# EAGLE library part PICSTICK (library pinconn)
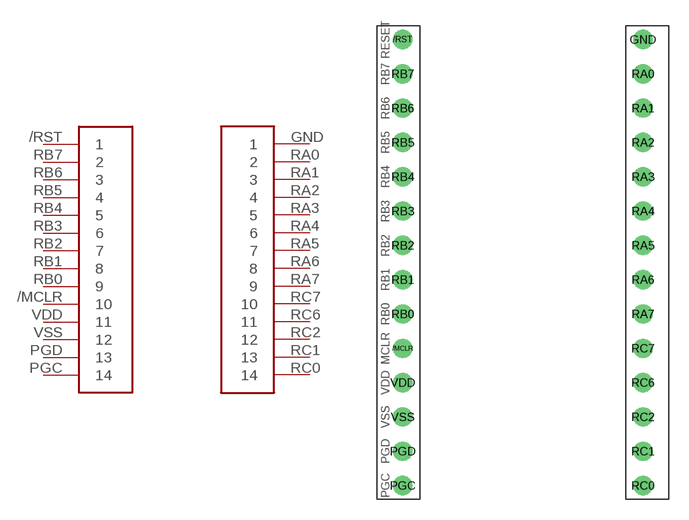
[diagram p12: symbol with the pads of PICSTICK_ALT; footprint PICSTICK_ALT]

Designator prefix J; gates G$1=PICSTICK_JP2 G$2=PICSTICK_JP1

## PICSTICK  [PICSTICK_ALT]
/MCLR  G$1:10
/RST  G$1:1
GND  G$2:1
PGC  G$1:14
PGD  G$1:13
RA0  G$2:2
RA1  G$2:3
RA2  G$2:4
RA3  G$2:5
RA4  G$2:6
RA5  G$2:7
RA6  G$2:8
RA7  G$2:9
RB0  G$1:9
RB1  G$1:8
RB2  G$1:7
RB3  G$1:6
RB4  G$1:5
RB5  G$1:4
RB6  G$1:3
RB7  G$1:2
RC0  G$2:14
RC1  G$2:13
RC2  G$2:12
RC6  G$2:11
RC7  G$2:10
VDD  G$1:11
VSS  G$1:12

## Footprint PICSTICK_ALT (pad centres in mm)
drill 0.9 pad 1.422: /MCLR -7.62,-7.62; /RST -7.62,15.24; GND 10.16,15.24; PGC -7.62,-17.78; PGD -7.62,-15.24; RA0 10.16,12.7; RA1 10.16,10.16; RA2 10.16,7.62; RA3 10.16,5.08; RA4 10.16,2.54; RA5 10.16,0; RA6 10.16,-2.54; RA7 10.16,-5.08; RB0 -7.62,-5.08; RB1 -7.62,-2.54; RB2 -7.62,0; RB3 -7.62,2.54; RB4 -7.62,5.08; RB5 -7.62,7.62; RB6 -7.62,10.16; RB7 -7.62,12.7; RC0 10.16,-17.78; RC1 10.16,-15.24; RC2 10.16,-12.7; RC6 10.16,-10.16; RC7 10.16,-7.62; VDD -7.62,-10.16; VSS -7.62,-12.7